# Altium footprint library SnapEDApcb.PcbLib: 1 footprints
Each footprint in its own frame and in the unit in brackets; x right, y up, seen from the top. Pads: shape width x height; smd on the part's side, far side on the other; paste and mask are expansions set on the pad; w line width, h text height; cw(c..) or ccw(c..) is an arc to the next point about the centre after c.
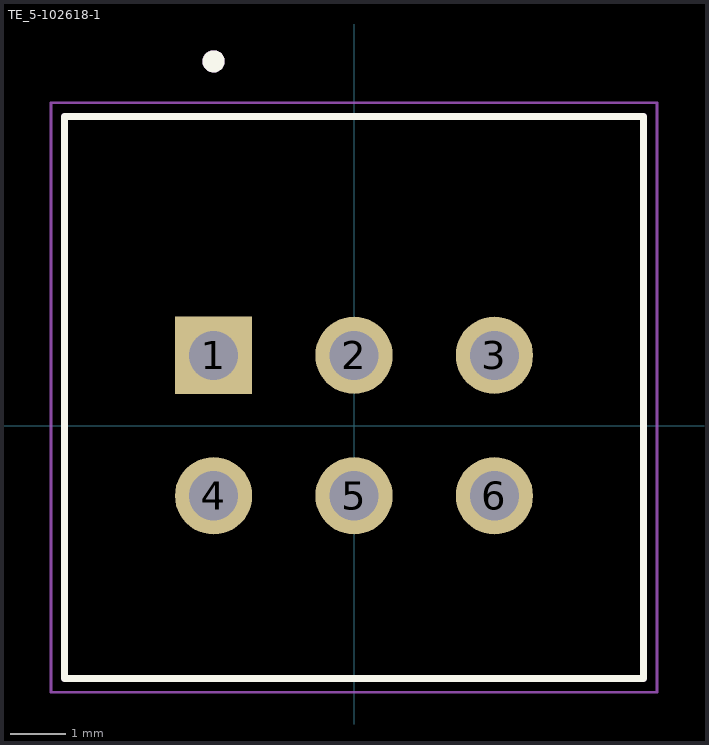
[diagram p0: the footprint, top view; thin cyan lines are the x and y axes]

## TE_5-102618-1 [mm]
pads (6):
  rect 1.398x1.398 hole 0.89: 1(-2.54,1.27)
  round 1.398 hole 0.89: 2(0,1.27) 3(2.54,1.27) 4(-2.54,-1.27) 5(0,-1.27) 6(2.54,-1.27)
Top Overlay:
  circle w0.2: c-2.54,6.588 r0.1
  lines w0.127: -5.232,-4.572 -5.232,5.588 5.232,5.588 5.232,-4.572 -5.232,-4.572
Mechanical 13:
  circle w0.2: c-2.54,6.588 r0.1
  lines w0.127: -5.232,-4.572 -5.232,5.588 5.232,5.588 5.232,-4.572 -5.232,-4.572
Mechanical 15:
  lines w0.05: -5.482,-4.822 -5.482,5.838 5.482,5.838 5.482,-4.822 -5.482,-4.822